# Altium footprint library SolarPanels.PcbLib: 3 footprints
Each footprint in its own frame and in the unit in brackets; x right, y up, seen from the top. Pads: shape width x height; smd on the part's side, far side on the other; paste and mask are expansions set on the pad; w line width, h text height; cw(c..) or ccw(c..) is an arc to the next point about the centre after c.
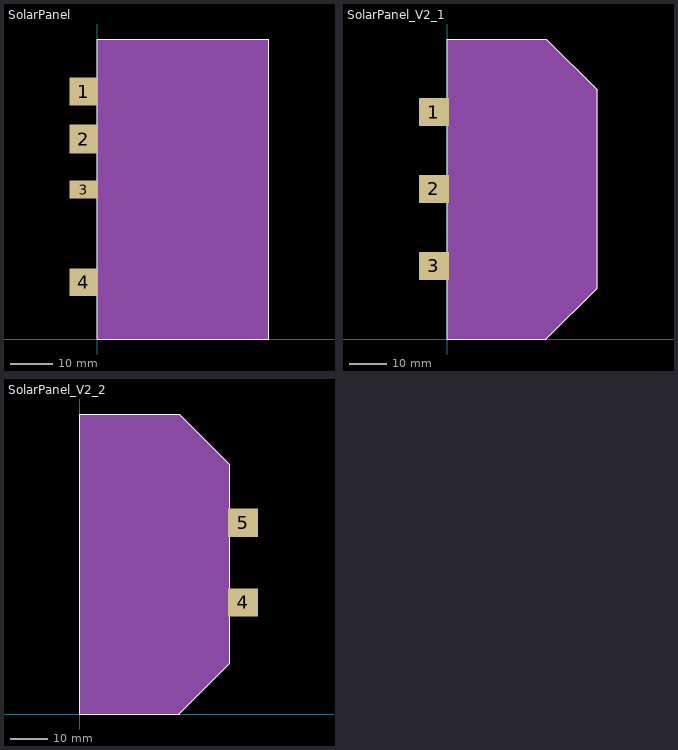
[diagram p0: the footprints below, top view; thin cyan lines are the x and y axes]

## SolarPanel [mm]
pads (4):
  rect 6.5x6.5 smd: 1(-3.25,57.75) 4(-3.25,13.25)
  rect 6.5x6.75 smd: 2(-3.25,46.625)
  rect 6.5x4.25 smd: 3(-3.25,34.875)
Top Overlay:
  lines w0.254: 0,0 40,0 40,70 0,70 0,0
Mechanical 1:
  region: 0,0 0,70 40,70 40,0
  region: 17.018,40.386

## SolarPanel_V2_1 [mm] "Panels from Azurspace"
pads (3):
  rect 8x7.53 smd: 1(-3.5,60.5) 2(-3.5,40) 3(-3.5,19.5)
Top Overlay:
  lines w0: 26,80 0,80 ; 26.5,0 0,0 0,80 ; 40,13.5 40,66.5 26.5,80 0,80
  lines w0.254: 40,13.5 26.5,0 ; 26.5,0 26.5,0 ; 40,66.5 40,66.5
Mechanical 1:
  region: 0,80 26.5,80 40,66.5 40,13.5 26.5,0 0,0

## SolarPanel_V2_2 [mm] "Panels from Azurspace"
pads (2):
  rect 8x7.5 smd: 4(43.5,29.75) 5(43.5,51)
Top Overlay:
  lines w0: 26,80 0,80 ; 26.5,0 0,0 0,80 ; 40,13.5 40,66.5 26.5,80 0,80
  lines w0.254: 40,13.5 26.5,0 ; 26.5,0 26.5,0 ; 40,66.5 40,66.5
Mechanical 1:
  region: 0,80 26.5,80 40,66.5 40,13.5 26.5,0 0,0